# EAGLE library part LOGIC_LEVEL_CONVERTOR (library logic_level_convertor)
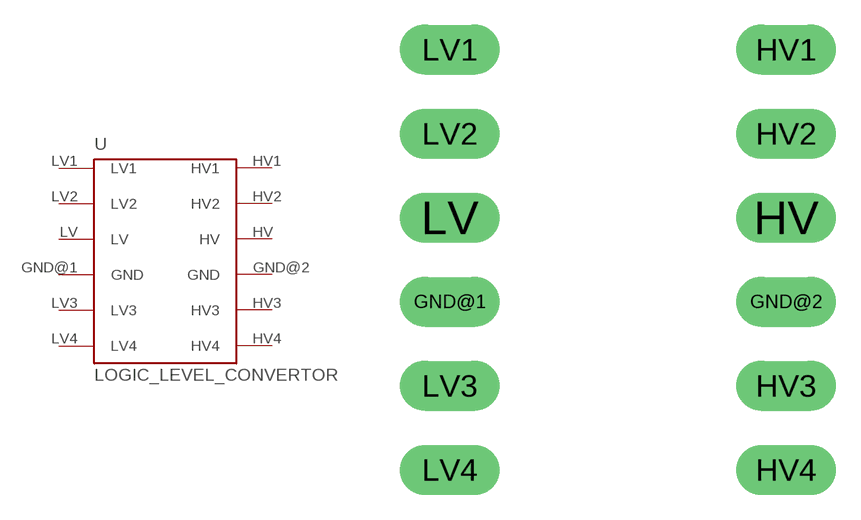
[diagram p0: symbol with the pads of LOGIC_LEVEL_CONVERTOR; footprint LOGIC_LEVEL_CONVERTOR]

Designator prefix -

## LOGIC_LEVEL_CONVERTOR  [LOGIC_LEVEL_CONVERTOR]
GND@1  GND
GND@2  GND
HV  HV
HV1  HV1
HV2  HV2
HV3  HV3
HV4  HV4
LV  LV
LV1  LV1
LV2  LV2
LV3  LV3
LV4  LV4

## Footprint LOGIC_LEVEL_CONVERTOR (pad centres in mm)
drill 1 long: GND@1 0,-7.62; GND@2 10.16,-7.62; HV 10.16,-5.08; HV1 10.16,0; HV2 10.16,-2.54; HV3 10.16,-10.16; HV4 10.16,-12.7; LV 0,-5.08; LV1 0,0; LV2 0,-2.54; LV3 0,-10.16; LV4 0,-12.7